# Altium schematic symbol library spacemonochrome-WR_TBL.SchLib: 1696 symbols (part 11 of 28)
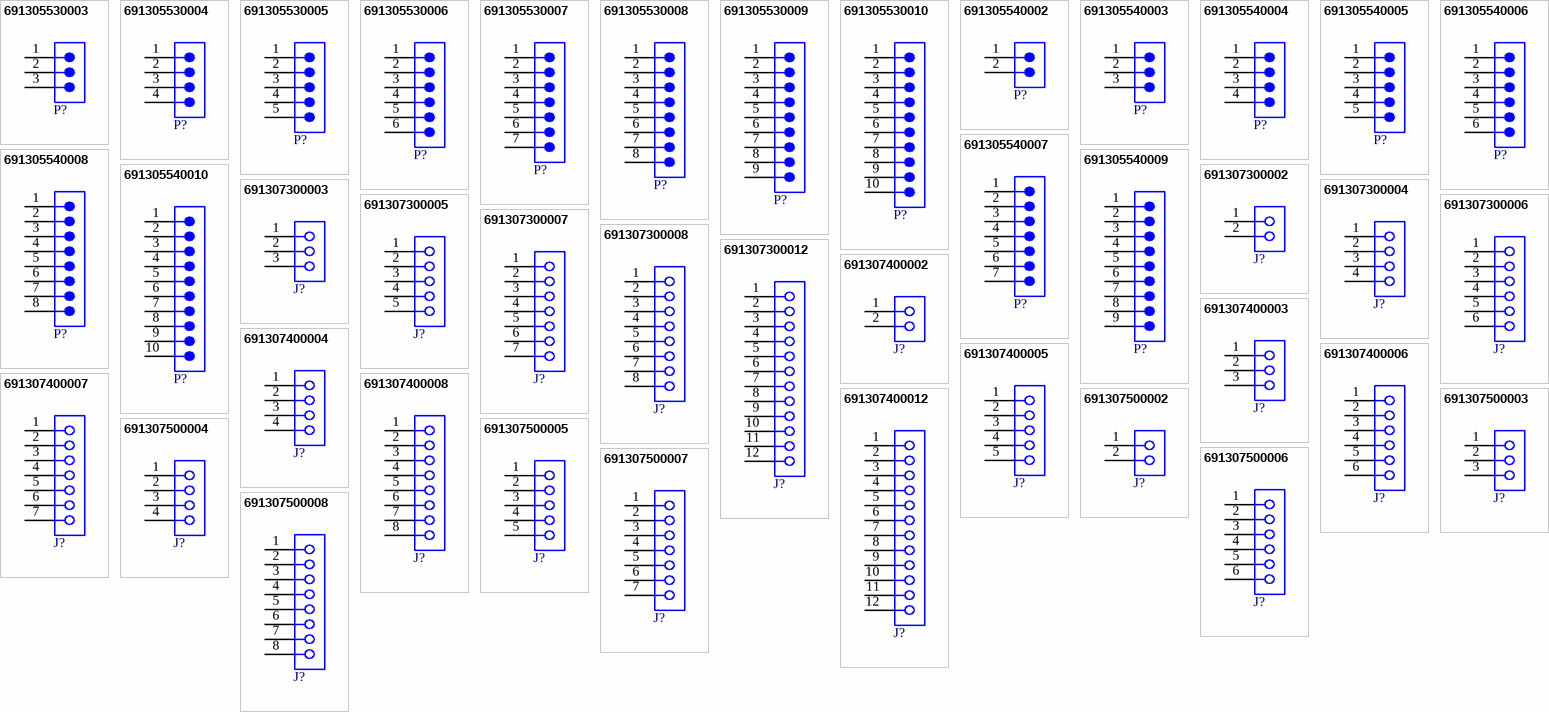
[diagram p52: symbols 691305530003 to 691307500008]

## 691307400004
designator J?  (value not drawn)
WR-TBL Series 3074 Reversed Gender Vertical PCB Header, THT, pitch 7.62mm, 4p; Manufacturer: Wurth Elektronik; Modularity: No; Rated Current: 20A; Working Voltage: 300V; ComponentLink1Description: Website Link; ComponentLink1URL: https://www.we-online.com/redexpert/article/691307400004?ad; ComponentLink2Description: Datasheet Link; ComponentLink2URL: https://www.we-online.com/redexpert/spec/691307400004?ad; Manufacturer Part Number: 691307400004; Category: Terminal Blocks; Match Code: WR-TBL; Mount: Through Hole; Operating Temperature Max: 105°C; Operating Temperature Min: -40°C; Packaging: Box; Application: Pluggable; Number of Pins: 4; Number of Rows: 1; Orientation: Vertical; Pitch: 7.62mm
footprint 691307400004
pins: 1, 2, 3, 4

## 691307400005
designator J?  (value not drawn)
WR-TBL Series 3074 Reversed Gender Vertical PCB Header, THT, pitch 7.62mm, 5p; Manufacturer: Wurth Elektronik; Modularity: No; Rated Current: 20A; Working Voltage: 300V; ComponentLink1Description: Website Link; ComponentLink1URL: https://www.we-online.com/redexpert/article/691307400005?ad; ComponentLink2Description: Datasheet Link; ComponentLink2URL: https://www.we-online.com/redexpert/spec/691307400005?ad; Manufacturer Part Number: 691307400005; Category: Terminal Blocks; Match Code: WR-TBL; Mount: Through Hole; Operating Temperature Max: 105°C; Operating Temperature Min: -40°C; Packaging: Box; Application: Pluggable; Number of Pins: 5; Number of Rows: 1; Orientation: Vertical; Pitch: 7.62mm
footprint 691307400005
pins: 1, 2, 3, 4, 5

## 691307400006
designator J?  (value not drawn)
WR-TBL Series 3074 Reversed Gender Vertical PCB Header, THT, pitch 7.62mm, 6p; Manufacturer: Wurth Elektronik; Modularity: No; Rated Current: 20A; Working Voltage: 300V; ComponentLink1Description: Website Link; ComponentLink1URL: https://www.we-online.com/redexpert/article/691307400006?ad; ComponentLink2Description: Datasheet Link; ComponentLink2URL: https://www.we-online.com/redexpert/spec/691307400006?ad; Manufacturer Part Number: 691307400006; Category: Terminal Blocks; Match Code: WR-TBL; Mount: Through Hole; Operating Temperature Max: 105°C; Operating Temperature Min: -40°C; Packaging: Box; Application: Pluggable; Number of Pins: 6; Number of Rows: 1; Orientation: Vertical; Pitch: 7.62mm
footprint 691307400006
pins: 1, 2, 3, 4, 5, 6

## 691307400007
designator J?  (value not drawn)
WR-TBL Series 3074 Reversed Gender Vertical PCB Header, THT, pitch 7.62mm, 7p; Manufacturer: Wurth Elektronik; Modularity: No; Rated Current: 20A; Working Voltage: 300V; ComponentLink1Description: Website Link; ComponentLink1URL: https://www.we-online.com/redexpert/article/691307400007?ad; ComponentLink2Description: Datasheet Link; ComponentLink2URL: https://www.we-online.com/redexpert/spec/691307400007?ad; Manufacturer Part Number: 691307400007; Category: Terminal Blocks; Match Code: WR-TBL; Mount: Through Hole; Operating Temperature Max: 105°C; Operating Temperature Min: -40°C; Packaging: Box; Application: Pluggable; Number of Pins: 7; Number of Rows: 1; Orientation: Vertical; Pitch: 7.62mm
footprint 691307400007
pins: 1, 2, 3, 4, 5, 6, 7

## 691307400008
designator J?  (value not drawn)
WR-TBL Series 3074 Reversed Gender Vertical PCB Header, THT, pitch 7.62mm, 8p; Manufacturer: Wurth Elektronik; Modularity: No; Rated Current: 20A; Working Voltage: 300V; ComponentLink1Description: Website Link; ComponentLink1URL: https://www.we-online.com/redexpert/article/691307400008?ad; ComponentLink2Description: Datasheet Link; ComponentLink2URL: https://www.we-online.com/redexpert/spec/691307400008?ad; Manufacturer Part Number: 691307400008; Category: Terminal Blocks; Match Code: WR-TBL; Mount: Through Hole; Operating Temperature Max: 105°C; Operating Temperature Min: -40°C; Packaging: Box; Application: Pluggable; Number of Pins: 8; Number of Rows: 1; Orientation: Vertical; Pitch: 7.62mm
footprint 691307400008
pins: 1, 2, 3, 4, 5, 6, 7, 8

## 691307400012
designator J?  (value not drawn)
WR-TBL Series 3074 Reversed Gender Vertical PCB Header, THT, pitch 7.62mm, 12p; Manufacturer: Wurth Elektronik; Modularity: No; Rated Current: 20A; Working Voltage: 300V; ComponentLink1Description: Website Link; ComponentLink1URL: https://www.we-online.com/redexpert/article/691307400012?ad; ComponentLink2Description: Datasheet Link; ComponentLink2URL: https://www.we-online.com/redexpert/spec/691307400012?ad; Manufacturer Part Number: 691307400012; Category: Terminal Blocks; Match Code: WR-TBL; Mount: Through Hole; Operating Temperature Max: 105°C; Operating Temperature Min: -40°C; Packaging: Box; Application: Pluggable; Number of Pins: 12; Number of Rows: 1; Orientation: Vertical; Pitch: 7.62mm
footprint 691307400012
pins: 1, 2, 3, 4, 5, 6, 7, 8, 9, 10, 11, 12

## 691307500002
designator J?  (value not drawn)
WR-TBL Series 3075 Reversed Gender Vertical PCB Header, THT, pitch 5.08mm, 2p; Manufacturer: Wurth Elektronik; Modularity: No; Rated Current: 20A; Working Voltage: 300V; ComponentLink1Description: Website Link; ComponentLink1URL: https://www.we-online.com/redexpert/article/691307500002?ad; ComponentLink2Description: Datasheet Link; ComponentLink2URL: https://www.we-online.com/redexpert/spec/691307500002?ad; Manufacturer Part Number: 691307500002; Category: Terminal Blocks; Match Code: WR-TBL; Mount: Through Hole; Operating Temperature Max: 105°C; Operating Temperature Min: -40°C; Packaging: Box; Application: Pluggable; Number of Pins: 2; Number of Rows: 1; Orientation: Vertical; Pitch: 5.08mm
footprint 691307500002
pins: 1, 2

## 691307500003
designator J?  (value not drawn)
WR-TBL Series 3075 Reversed Gender Vertical PCB Header, THT, pitch 5.08mm, 3p; Manufacturer: Wurth Elektronik; Modularity: No; Rated Current: 20A; Working Voltage: 300V; ComponentLink1Description: Website Link; ComponentLink1URL: https://www.we-online.com/redexpert/article/691307500003?ad; ComponentLink2Description: Datasheet Link; ComponentLink2URL: https://www.we-online.com/redexpert/spec/691307500003?ad; Manufacturer Part Number: 691307500003; Category: Terminal Blocks; Match Code: WR-TBL; Mount: Through Hole; Operating Temperature Max: 105°C; Operating Temperature Min: -40°C; Packaging: Box; Application: Pluggable; Number of Pins: 3; Number of Rows: 1; Orientation: Vertical; Pitch: 5.08mm
footprint 691307500003
pins: 1, 2, 3

## 691307500004
designator J?  (value not drawn)
WR-TBL Series 3075 Reversed Gender Vertical PCB Header, THT, pitch 5.08mm, 4p; Manufacturer: Wurth Elektronik; Modularity: No; Rated Current: 20A; Working Voltage: 300V; ComponentLink1Description: Website Link; ComponentLink1URL: https://www.we-online.com/redexpert/article/691307500004?ad; ComponentLink2Description: Datasheet Link; ComponentLink2URL: https://www.we-online.com/redexpert/spec/691307500004?ad; Manufacturer Part Number: 691307500004; Category: Terminal Blocks; Match Code: WR-TBL; Mount: Through Hole; Operating Temperature Max: 105°C; Operating Temperature Min: -40°C; Packaging: Box; Application: Pluggable; Number of Pins: 4; Number of Rows: 1; Orientation: Vertical; Pitch: 5.08mm
footprint 691307500004
pins: 1, 2, 3, 4

## 691307500005
designator J?  (value not drawn)
WR-TBL Series 3075 Reversed Gender Vertical PCB Header, THT, pitch 5.08mm, 5p; Manufacturer: Wurth Elektronik; Modularity: No; Rated Current: 20A; Working Voltage: 300V; ComponentLink1Description: Website Link; ComponentLink1URL: https://www.we-online.com/redexpert/article/691307500005?ad; ComponentLink2Description: Datasheet Link; ComponentLink2URL: https://www.we-online.com/redexpert/spec/691307500005?ad; Manufacturer Part Number: 691307500005; Category: Terminal Blocks; Match Code: WR-TBL; Mount: Through Hole; Operating Temperature Max: 105°C; Operating Temperature Min: -40°C; Packaging: Box; Application: Pluggable; Number of Pins: 5; Number of Rows: 1; Orientation: Vertical; Pitch: 5.08mm
footprint 691307500005
pins: 1, 2, 3, 4, 5

## 691307500006
designator J?  (value not drawn)
WR-TBL Series 3075 Reversed Gender Vertical PCB Header, THT, pitch 5.08mm, 6p; Manufacturer: Wurth Elektronik; Modularity: No; Rated Current: 20A; Working Voltage: 300V; ComponentLink1Description: Website Link; ComponentLink1URL: https://www.we-online.com/redexpert/article/691307500006?ad; ComponentLink2Description: Datasheet Link; ComponentLink2URL: https://www.we-online.com/redexpert/spec/691307500006?ad; Manufacturer Part Number: 691307500006; Category: Terminal Blocks; Match Code: WR-TBL; Mount: Through Hole; Operating Temperature Max: 105°C; Operating Temperature Min: -40°C; Packaging: Box; Application: Pluggable; Number of Pins: 6; Number of Rows: 1; Orientation: Vertical; Pitch: 5.08mm
footprint 691307500006
pins: 1, 2, 3, 4, 5, 6

## 691307500007
designator J?  (value not drawn)
WR-TBL Series 3075 Reversed Gender Vertical PCB Header, THT, pitch 5.08mm, 7p; Manufacturer: Wurth Elektronik; Modularity: No; Rated Current: 20A; Working Voltage: 300V; ComponentLink1Description: Website Link; ComponentLink1URL: https://www.we-online.com/redexpert/article/691307500007?ad; ComponentLink2Description: Datasheet Link; ComponentLink2URL: https://www.we-online.com/redexpert/spec/691307500007?ad; Manufacturer Part Number: 691307500007; Category: Terminal Blocks; Match Code: WR-TBL; Mount: Through Hole; Operating Temperature Max: 105°C; Operating Temperature Min: -40°C; Packaging: Box; Application: Pluggable; Number of Pins: 7; Number of Rows: 1; Orientation: Vertical; Pitch: 5.08mm
footprint 691307500007
pins: 1, 2, 3, 4, 5, 6, 7

## 691307500008
designator J?  (value not drawn)
WR-TBL Series 3075 Reversed Gender Vertical PCB Header, THT, pitch 5.08mm, 8p; Manufacturer: Wurth Elektronik; Modularity: No; Rated Current: 20A; Working Voltage: 300V; ComponentLink1Description: Website Link; ComponentLink1URL: https://www.we-online.com/redexpert/article/691307500008?ad; ComponentLink2Description: Datasheet Link; ComponentLink2URL: https://www.we-online.com/redexpert/spec/691307500008?ad; Manufacturer Part Number: 691307500008; Category: Terminal Blocks; Match Code: WR-TBL; Mount: Through Hole; Operating Temperature Max: 105°C; Operating Temperature Min: -40°C; Packaging: Box; Application: Pluggable; Number of Pins: 8; Number of Rows: 1; Orientation: Vertical; Pitch: 5.08mm
footprint 691307500008
pins: 1, 2, 3, 4, 5, 6, 7, 8

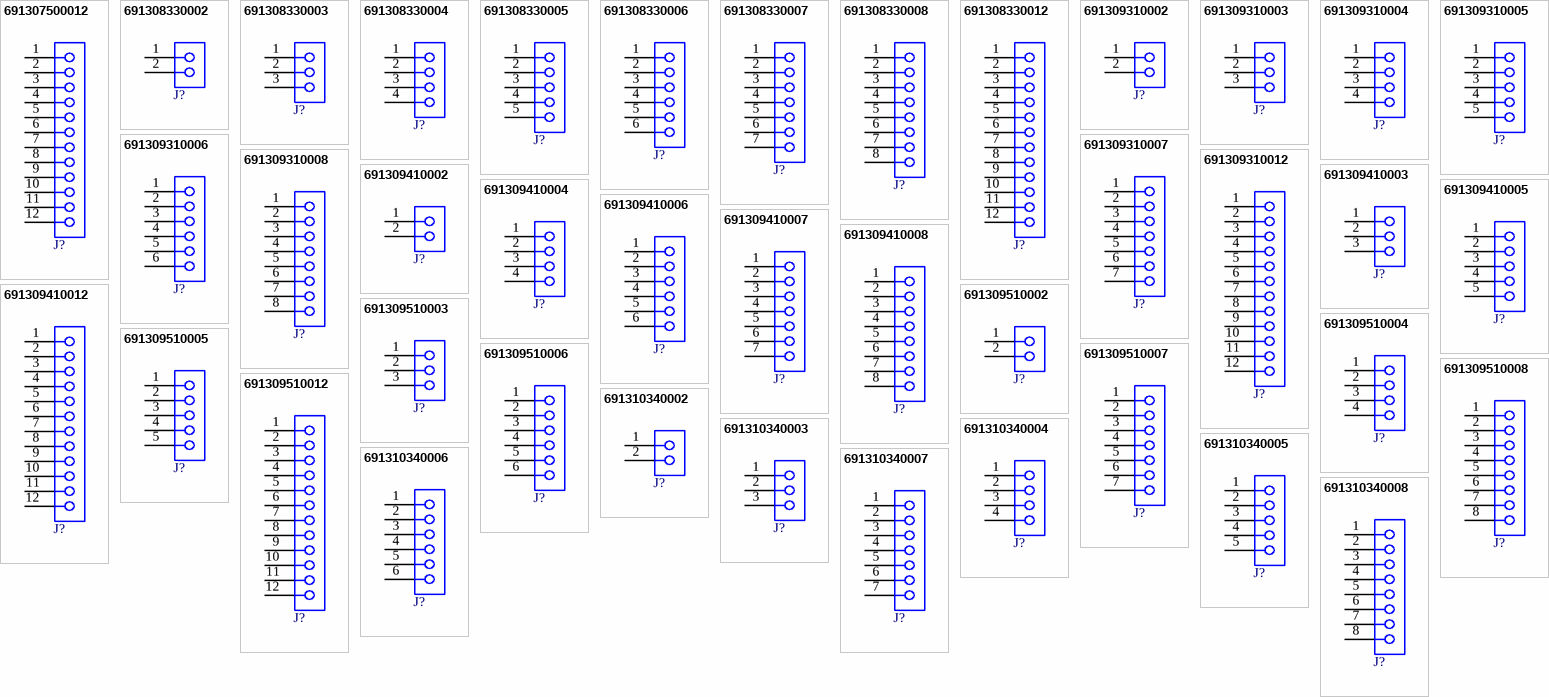
[diagram p16: symbols 691307500012 to 691310340008]

## 691307500012
designator J?  (value not drawn)
WR-TBL Series 3075 Reversed Gender Vertical PCB Header, THT, pitch 5.08mm, 12p; Manufacturer: Wurth Elektronik; Modularity: No; Rated Current: 20A; Working Voltage: 300V; ComponentLink1Description: Website Link; ComponentLink1URL: https://www.we-online.com/redexpert/article/691307500012?ad; ComponentLink2Description: Datasheet Link; ComponentLink2URL: https://www.we-online.com/redexpert/spec/691307500012?ad; Manufacturer Part Number: 691307500012; Category: Terminal Blocks; Match Code: WR-TBL; Mount: Through Hole; Operating Temperature Max: 105°C; Operating Temperature Min: -40°C; Packaging: Box; Application: Pluggable; Number of Pins: 12; Number of Rows: 1; Orientation: Vertical; Pitch: 5.08mm
footprint 691307500012
pins: 1, 2, 3, 4, 5, 6, 7, 8, 9, 10, 11, 12

## 691308330002
designator J?  (value not drawn)
WR-TBL Series 3083 Vertical Reserved PCB Header with Flanges, THT, pitch 3.81mm, 2p; Manufacturer: Wurth Elektronik; Modularity: No; Rated Current: 8A; Working Voltage: 300V; ComponentLink1Description: Website Link; ComponentLink1URL: https://www.we-online.com/redexpert/article/691308330002?ad; ComponentLink2Description: Datasheet Link; ComponentLink2URL: https://www.we-online.com/redexpert/spec/691308330002?ad; Manufacturer Part Number: 691308330002; Category: Terminal Blocks; Match Code: WR-TBL; Mount: Through Hole; Operating Temperature Max: 115°C; Operating Temperature Min: -40°C; Packaging: Box; Application: Pluggable; Number of Pins: 2; Number of Rows: 1; Orientation: Vertical; Pitch: 3.81mm
footprint 691308330002
pins: 1, 2

## 691308330003
designator J?  (value not drawn)
WR-TBL Series 3083 Vertical Reserved PCB Header with Flanges, THT, pitch 3.81mm, 3p; Manufacturer: Wurth Elektronik; Modularity: No; Rated Current: 8A; Working Voltage: 300V; ComponentLink1Description: Website Link; ComponentLink1URL: https://www.we-online.com/redexpert/article/691308330003?ad; ComponentLink2Description: Datasheet Link; ComponentLink2URL: https://www.we-online.com/redexpert/spec/691308330003?ad; Manufacturer Part Number: 691308330003; Category: Terminal Blocks; Match Code: WR-TBL; Mount: Through Hole; Operating Temperature Max: 115°C; Operating Temperature Min: -40°C; Packaging: Box; Application: Pluggable; Number of Pins: 3; Number of Rows: 1; Orientation: Vertical; Pitch: 3.81mm
footprint 691308330003
pins: 1, 2, 3

## 691308330004
designator J?  (value not drawn)
WR-TBL Series 3083 Vertical Reserved PCB Header with Flanges, THT, pitch 3.81mm, 4p; Manufacturer: Wurth Elektronik; Modularity: No; Rated Current: 8A; Working Voltage: 300V; ComponentLink1Description: Website Link; ComponentLink1URL: https://www.we-online.com/redexpert/article/691308330004?ad; ComponentLink2Description: Datasheet Link; ComponentLink2URL: https://www.we-online.com/redexpert/spec/691308330004?ad; Manufacturer Part Number: 691308330004; Category: Terminal Blocks; Match Code: WR-TBL; Mount: Through Hole; Operating Temperature Max: 115°C; Operating Temperature Min: -40°C; Packaging: Box; Application: Pluggable; Number of Pins: 4; Number of Rows: 1; Orientation: Vertical; Pitch: 3.81mm
footprint 691308330004
pins: 1, 2, 3, 4

## 691308330005
designator J?  (value not drawn)
WR-TBL Series 3083 Vertical Reserved PCB Header with Flanges, THT, pitch 3.81mm, 5p; Manufacturer: Wurth Elektronik; Modularity: No; Rated Current: 8A; Working Voltage: 300V; ComponentLink1Description: Website Link; ComponentLink1URL: https://www.we-online.com/redexpert/article/691308330005?ad; ComponentLink2Description: Datasheet Link; ComponentLink2URL: https://www.we-online.com/redexpert/spec/691308330005?ad; Manufacturer Part Number: 691308330005; Category: Terminal Blocks; Match Code: WR-TBL; Mount: Through Hole; Operating Temperature Max: 115°C; Operating Temperature Min: -40°C; Packaging: Box; Application: Pluggable; Number of Pins: 5; Number of Rows: 1; Orientation: Vertical; Pitch: 3.81mm
footprint 691308330005
pins: 1, 2, 3, 4, 5

## 691308330006
designator J?  (value not drawn)
WR-TBL Series 3083 Vertical Reserved PCB Header with Flanges, THT, pitch 3.81mm, 6p; Manufacturer: Wurth Elektronik; Modularity: No; Rated Current: 8A; Working Voltage: 300V; ComponentLink1Description: Website Link; ComponentLink1URL: https://www.we-online.com/redexpert/article/691308330006?ad; ComponentLink2Description: Datasheet Link; ComponentLink2URL: https://www.we-online.com/redexpert/spec/691308330006?ad; Manufacturer Part Number: 691308330006; Category: Terminal Blocks; Match Code: WR-TBL; Mount: Through Hole; Operating Temperature Max: 115°C; Operating Temperature Min: -40°C; Packaging: Box; Application: Pluggable; Number of Pins: 6; Number of Rows: 1; Orientation: Vertical; Pitch: 3.81mm
footprint 691308330006
pins: 1, 2, 3, 4, 5, 6

## 691308330007
designator J?  (value not drawn)
WR-TBL Series 3083 Vertical Reserved PCB Header with Flanges, THT, pitch 3.81mm, 7p; Manufacturer: Wurth Elektronik; Modularity: No; Rated Current: 8A; Working Voltage: 300V; ComponentLink1Description: Website Link; ComponentLink1URL: https://www.we-online.com/redexpert/article/691308330007?ad; ComponentLink2Description: Datasheet Link; ComponentLink2URL: https://www.we-online.com/redexpert/spec/691308330007?ad; Manufacturer Part Number: 691308330007; Category: Terminal Blocks; Match Code: WR-TBL; Mount: Through Hole; Operating Temperature Max: 115°C; Operating Temperature Min: -40°C; Packaging: Box; Application: Pluggable; Number of Pins: 7; Number of Rows: 1; Orientation: Vertical; Pitch: 3.81mm
footprint 691308330007
pins: 1, 2, 3, 4, 5, 6, 7

## 691308330008
designator J?  (value not drawn)
WR-TBL Series 3083 Vertical Reserved PCB Header with Flanges, THT, pitch 3.81mm, 8p; Manufacturer: Wurth Elektronik; Modularity: No; Rated Current: 8A; Working Voltage: 300V; ComponentLink1Description: Website Link; ComponentLink1URL: https://www.we-online.com/redexpert/article/691308330008?ad; ComponentLink2Description: Datasheet Link; ComponentLink2URL: https://www.we-online.com/redexpert/spec/691308330008?ad; Manufacturer Part Number: 691308330008; Category: Terminal Blocks; Match Code: WR-TBL; Mount: Through Hole; Operating Temperature Max: 115°C; Operating Temperature Min: -40°C; Packaging: Box; Application: Pluggable; Number of Pins: 8; Number of Rows: 1; Orientation: Vertical; Pitch: 3.81mm
footprint 691308330008
pins: 1, 2, 3, 4, 5, 6, 7, 8

## 691308330012
designator J?  (value not drawn)
WR-TBL Series 3083 Vertical Reserved PCB Header with Flanges, THT, pitch 3.81mm, 12p; Manufacturer: Wurth Elektronik; Modularity: No; Rated Current: 8A; Working Voltage: 300V; ComponentLink1Description: Website Link; ComponentLink1URL: https://www.we-online.com/redexpert/article/691308330012?ad; ComponentLink2Description: Datasheet Link; ComponentLink2URL: https://www.we-online.com/redexpert/spec/691308330012?ad; Manufacturer Part Number: 691308330012; Category: Terminal Blocks; Match Code: WR-TBL; Mount: Through Hole; Operating Temperature Max: 115°C; Operating Temperature Min: -40°C; Packaging: Box; Application: Pluggable; Number of Pins: 12; Number of Rows: 1; Orientation: Vertical; Pitch: 3.81mm
footprint 691308330012
pins: 1, 2, 3, 4, 5, 6, 7, 8, 9, 10, 11, 12

## 691309310002
designator J?  (value not drawn)
WR-TBL Series 3093 Horizontal Reserved PCB Header with Flanges, THT, pitch 3.81mm, 2p; Manufacturer: Wurth Elektronik; Modularity: No; Rated Current: 8A; Working Voltage: 300V; ComponentLink1Description: Website Link; ComponentLink1URL: https://www.we-online.com/redexpert/article/691309310002?ad; ComponentLink2Description: Datasheet Link; ComponentLink2URL: https://www.we-online.com/redexpert/spec/691309310002?ad; Manufacturer Part Number: 691309310002; Category: Terminal Blocks; Match Code: WR-TBL; Mount: Through Hole; Operating Temperature Max: 115°C; Operating Temperature Min: -40°C; Packaging: Box; Application: Pluggable; Number of Pins: 2; Number of Rows: 1; Orientation: Horizontal; Pitch: 3.81mm
footprint 691309310002
pins: 1, 2

## 691309310003
designator J?  (value not drawn)
WR-TBL Series 3093 Horizontal Reserved PCB Header with Flanges, THT, pitch 3.81mm, 3p; Manufacturer: Wurth Elektronik; Modularity: No; Rated Current: 8A; Working Voltage: 300V; ComponentLink1Description: Website Link; ComponentLink1URL: https://www.we-online.com/redexpert/article/691309310003?ad; ComponentLink2Description: Datasheet Link; ComponentLink2URL: https://www.we-online.com/redexpert/spec/691309310003?ad; Manufacturer Part Number: 691309310003; Category: Terminal Blocks; Match Code: WR-TBL; Mount: Through Hole; Operating Temperature Max: 115°C; Operating Temperature Min: -40°C; Packaging: Box; Application: Pluggable; Number of Pins: 3; Number of Rows: 1; Orientation: Horizontal; Pitch: 3.81mm
footprint 691309310003
pins: 1, 2, 3

## 691309310004
designator J?  (value not drawn)
WR-TBL Series 3093 Horizontal Reserved PCB Header with Flanges, THT, pitch 3.81mm, 4p; Manufacturer: Wurth Elektronik; Modularity: No; Rated Current: 8A; Working Voltage: 300V; ComponentLink1Description: Website Link; ComponentLink1URL: https://www.we-online.com/redexpert/article/691309310004?ad; ComponentLink2Description: Datasheet Link; ComponentLink2URL: https://www.we-online.com/redexpert/spec/691309310004?ad; Manufacturer Part Number: 691309310004; Category: Terminal Blocks; Match Code: WR-TBL; Mount: Through Hole; Operating Temperature Max: 115°C; Operating Temperature Min: -40°C; Packaging: Box; Application: Pluggable; Number of Pins: 4; Number of Rows: 1; Orientation: Horizontal; Pitch: 3.81mm
footprint 691309310004
pins: 1, 2, 3, 4

## 691309310005
designator J?  (value not drawn)
WR-TBL Series 3093 Horizontal Reserved PCB Header with Flanges, THT, pitch 3.81mm, 5p; Manufacturer: Wurth Elektronik; Modularity: No; Rated Current: 8A; Working Voltage: 300V; ComponentLink1Description: Website Link; ComponentLink1URL: https://www.we-online.com/redexpert/article/691309310005?ad; ComponentLink2Description: Datasheet Link; ComponentLink2URL: https://www.we-online.com/redexpert/spec/691309310005?ad; Manufacturer Part Number: 691309310005; Category: Terminal Blocks; Match Code: WR-TBL; Mount: Through Hole; Operating Temperature Max: 115°C; Operating Temperature Min: -40°C; Packaging: Box; Application: Pluggable; Number of Pins: 5; Number of Rows: 1; Orientation: Horizontal; Pitch: 3.81mm
footprint 691309310005
pins: 1, 2, 3, 4, 5

## 691309310006
designator J?  (value not drawn)
WR-TBL Series 3093 Horizontal Reserved PCB Header with Flanges, THT, pitch 3.81mm, 6p; Manufacturer: Wurth Elektronik; Modularity: No; Rated Current: 8A; Working Voltage: 300V; ComponentLink1Description: Website Link; ComponentLink1URL: https://www.we-online.com/redexpert/article/691309310006?ad; ComponentLink2Description: Datasheet Link; ComponentLink2URL: https://www.we-online.com/redexpert/spec/691309310006?ad; Manufacturer Part Number: 691309310006; Category: Terminal Blocks; Match Code: WR-TBL; Mount: Through Hole; Operating Temperature Max: 115°C; Operating Temperature Min: -40°C; Packaging: Box; Application: Pluggable; Number of Pins: 6; Number of Rows: 1; Orientation: Horizontal; Pitch: 3.81mm
footprint 691309310006
pins: 1, 2, 3, 4, 5, 6

## 691309310007
designator J?  (value not drawn)
WR-TBL Series 3093 Horizontal Reserved PCB Header with Flanges, THT, pitch 3.81mm, 7p; Manufacturer: Wurth Elektronik; Modularity: No; Rated Current: 8A; Working Voltage: 300V; ComponentLink1Description: Website Link; ComponentLink1URL: https://www.we-online.com/redexpert/article/691309310007?ad; ComponentLink2Description: Datasheet Link; ComponentLink2URL: https://www.we-online.com/redexpert/spec/691309310007?ad; Manufacturer Part Number: 691309310007; Category: Terminal Blocks; Match Code: WR-TBL; Mount: Through Hole; Operating Temperature Max: 115°C; Operating Temperature Min: -40°C; Packaging: Box; Application: Pluggable; Number of Pins: 7; Number of Rows: 1; Orientation: Horizontal; Pitch: 3.81mm
footprint 691309310007
pins: 1, 2, 3, 4, 5, 6, 7

## 691309310008
designator J?  (value not drawn)
WR-TBL Series 3093 Horizontal Reserved PCB Header with Flanges, THT, pitch 3.81mm, 8p; Manufacturer: Wurth Elektronik; Modularity: No; Rated Current: 8A; Working Voltage: 300V; ComponentLink1Description: Website Link; ComponentLink1URL: https://www.we-online.com/redexpert/article/691309310008?ad; ComponentLink2Description: Datasheet Link; ComponentLink2URL: https://www.we-online.com/redexpert/spec/691309310008?ad; Manufacturer Part Number: 691309310008; Category: Terminal Blocks; Match Code: WR-TBL; Mount: Through Hole; Operating Temperature Max: 115°C; Operating Temperature Min: -40°C; Packaging: Box; Application: Pluggable; Number of Pins: 8; Number of Rows: 1; Orientation: Horizontal; Pitch: 3.81mm
footprint 691309310008
pins: 1, 2, 3, 4, 5, 6, 7, 8

## 691309310012
designator J?  (value not drawn)
WR-TBL Series 3093 Horizontal Reserved PCB Header with Flanges, THT, pitch 3.81mm, 12p; Manufacturer: Wurth Elektronik; Modularity: No; Rated Current: 8A; Working Voltage: 300V; ComponentLink1Description: Website Link; ComponentLink1URL: https://www.we-online.com/redexpert/article/691309310012?ad; ComponentLink2Description: Datasheet Link; ComponentLink2URL: https://www.we-online.com/redexpert/spec/691309310012?ad; Manufacturer Part Number: 691309310012; Category: Terminal Blocks; Match Code: WR-TBL; Mount: Through Hole; Operating Temperature Max: 115°C; Operating Temperature Min: -40°C; Packaging: Box; Application: Pluggable; Number of Pins: 12; Number of Rows: 1; Orientation: Horizontal; Pitch: 3.81mm
footprint 691309310012
pins: 1, 2, 3, 4, 5, 6, 7, 8, 9, 10, 11, 12

## 691309410002
designator J?  (value not drawn)
WR-TBL Series 3094 Reversed Gender Horizontal PCB Header, THT, pitch 7.62mm, 2p; Manufacturer: Wurth Elektronik; Modularity: No; Rated Current: 20A; Working Voltage: 300V; ComponentLink1Description: Website Link; ComponentLink1URL: https://www.we-online.com/redexpert/article/691309410002?ad; ComponentLink2Description: Datasheet Link; ComponentLink2URL: https://www.we-online.com/redexpert/spec/691309410002?ad; Manufacturer Part Number: 691309410002; Category: Terminal Blocks; Match Code: WR-TBL; Mount: Through Hole; Operating Temperature Max: 105°C; Operating Temperature Min: -40°C; Packaging: Box; Application: Pluggable; Number of Pins: 2; Number of Rows: 1; Orientation: Horizontal; Pitch: 7.62mm
footprint 691309410002
pins: 1, 2

## 691309410003
designator J?  (value not drawn)
WR-TBL Series 3094 Reversed Gender Horizontal PCB Header, THT, pitch 7.62mm, 3p; Manufacturer: Wurth Elektronik; Modularity: No; Rated Current: 20A; Working Voltage: 300V; ComponentLink1Description: Website Link; ComponentLink1URL: https://www.we-online.com/redexpert/article/691309410003?ad; ComponentLink2Description: Datasheet Link; ComponentLink2URL: https://www.we-online.com/redexpert/spec/691309410003?ad; Manufacturer Part Number: 691309410003; Category: Terminal Blocks; Match Code: WR-TBL; Mount: Through Hole; Operating Temperature Max: 105°C; Operating Temperature Min: -40°C; Packaging: Box; Application: Pluggable; Number of Pins: 3; Number of Rows: 1; Orientation: Horizontal; Pitch: 7.62mm
footprint 691309410003
pins: 1, 2, 3

## 691309410004
designator J?  (value not drawn)
WR-TBL Series 3094 Reversed Gender Horizontal PCB Header, THT, pitch 7.62mm, 4p; Manufacturer: Wurth Elektronik; Modularity: No; Rated Current: 20A; Working Voltage: 300V; ComponentLink1Description: Website Link; ComponentLink1URL: https://www.we-online.com/redexpert/article/691309410004?ad; ComponentLink2Description: Datasheet Link; ComponentLink2URL: https://www.we-online.com/redexpert/spec/691309410004?ad; Manufacturer Part Number: 691309410004; Category: Terminal Blocks; Match Code: WR-TBL; Mount: Through Hole; Operating Temperature Max: 105°C; Operating Temperature Min: -40°C; Packaging: Box; Application: Pluggable; Number of Pins: 4; Number of Rows: 1; Orientation: Horizontal; Pitch: 7.62mm
footprint 691309410004
pins: 1, 2, 3, 4

## 691309410005
designator J?  (value not drawn)
WR-TBL Series 3094 Reversed Gender Horizontal PCB Header, THT, pitch 7.62mm, 5p; Manufacturer: Wurth Elektronik; Modularity: No; Rated Current: 20A; Working Voltage: 300V; ComponentLink1Description: Website Link; ComponentLink1URL: https://www.we-online.com/redexpert/article/691309410005?ad; ComponentLink2Description: Datasheet Link; ComponentLink2URL: https://www.we-online.com/redexpert/spec/691309410005?ad; Manufacturer Part Number: 691309410005; Category: Terminal Blocks; Match Code: WR-TBL; Mount: Through Hole; Operating Temperature Max: 105°C; Operating Temperature Min: -40°C; Packaging: Box; Application: Pluggable; Number of Pins: 5; Number of Rows: 1; Orientation: Horizontal; Pitch: 7.62mm
footprint 691309410005
pins: 1, 2, 3, 4, 5

## 691309410006
designator J?  (value not drawn)
WR-TBL Series 3094 Reversed Gender Horizontal PCB Header, THT, pitch 7.62mm, 6p; Manufacturer: Wurth Elektronik; Modularity: No; Rated Current: 20A; Working Voltage: 300V; ComponentLink1Description: Website Link; ComponentLink1URL: https://www.we-online.com/redexpert/article/691309410006?ad; ComponentLink2Description: Datasheet Link; ComponentLink2URL: https://www.we-online.com/redexpert/spec/691309410006?ad; Manufacturer Part Number: 691309410006; Category: Terminal Blocks; Match Code: WR-TBL; Mount: Through Hole; Operating Temperature Max: 105°C; Operating Temperature Min: -40°C; Packaging: Box; Application: Pluggable; Number of Pins: 6; Number of Rows: 1; Orientation: Horizontal; Pitch: 7.62mm
footprint 691309410006
pins: 1, 2, 3, 4, 5, 6

## 691309410007
designator J?  (value not drawn)
WR-TBL Series 3094 Reversed Gender Horizontal PCB Header, THT, pitch 7.62mm, 7p; Manufacturer: Wurth Elektronik; Modularity: No; Rated Current: 20A; Working Voltage: 300V; ComponentLink1Description: Website Link; ComponentLink1URL: https://www.we-online.com/redexpert/article/691309410007?ad; ComponentLink2Description: Datasheet Link; ComponentLink2URL: https://www.we-online.com/redexpert/spec/691309410007?ad; Manufacturer Part Number: 691309410007; Category: Terminal Blocks; Match Code: WR-TBL; Mount: Through Hole; Operating Temperature Max: 105°C; Operating Temperature Min: -40°C; Packaging: Box; Application: Pluggable; Number of Pins: 7; Number of Rows: 1; Orientation: Horizontal; Pitch: 7.62mm
footprint 691309410007
pins: 1, 2, 3, 4, 5, 6, 7

## 691309410008
designator J?  (value not drawn)
WR-TBL Series 3094 Reversed Gender Horizontal PCB Header, THT, pitch 7.62mm, 8p; Manufacturer: Wurth Elektronik; Modularity: No; Rated Current: 20A; Working Voltage: 300V; ComponentLink1Description: Website Link; ComponentLink1URL: https://www.we-online.com/redexpert/article/691309410008?ad; ComponentLink2Description: Datasheet Link; ComponentLink2URL: https://www.we-online.com/redexpert/spec/691309410008?ad; Manufacturer Part Number: 691309410008; Category: Terminal Blocks; Match Code: WR-TBL; Mount: Through Hole; Operating Temperature Max: 105°C; Operating Temperature Min: -40°C; Packaging: Box; Application: Pluggable; Number of Pins: 8; Number of Rows: 1; Orientation: Horizontal; Pitch: 7.62mm
footprint 691309410008
pins: 1, 2, 3, 4, 5, 6, 7, 8

## 691309410012
designator J?  (value not drawn)
WR-TBL Series 3094 Reversed Gender Horizontal PCB Header, THT, pitch 7.62mm, 12p; Manufacturer: Wurth Elektronik; Modularity: No; Rated Current: 20A; Working Voltage: 300V; ComponentLink1Description: Website Link; ComponentLink1URL: https://www.we-online.com/redexpert/article/691309410012?ad; ComponentLink2Description: Datasheet Link; ComponentLink2URL: https://www.we-online.com/redexpert/spec/691309410012?ad; Manufacturer Part Number: 691309410012; Category: Terminal Blocks; Match Code: WR-TBL; Mount: Through Hole; Operating Temperature Max: 105°C; Operating Temperature Min: -40°C; Packaging: Box; Application: Pluggable; Number of Pins: 12; Number of Rows: 1; Orientation: Horizontal; Pitch: 7.62mm
footprint 691309410012
pins: 1, 2, 3, 4, 5, 6, 7, 8, 9, 10, 11, 12

## 691309510002
designator J?  (value not drawn)
WR-TBL Series 3095 Reversed Gender Horizontal PCB Header, THT, pitch 5.08mm, 2p; Manufacturer: Wurth Elektronik; Modularity: No; Rated Current: 20A; Working Voltage: 300V; ComponentLink1Description: Website Link; ComponentLink1URL: https://www.we-online.com/redexpert/article/691309510002?ad; ComponentLink2Description: Datasheet Link; ComponentLink2URL: https://www.we-online.com/redexpert/spec/691309510002?ad; Manufacturer Part Number: 691309510002; Category: Terminal Blocks; Match Code: WR-TBL; Mount: Through Hole; Operating Temperature Max: 105°C; Operating Temperature Min: -40°C; Packaging: Box; Application: Pluggable; Number of Pins: 2; Number of Rows: 1; Orientation: Horizontal; Pitch: 5.08mm
footprint 691309510002
pins: 1, 2

## 691309510003
designator J?  (value not drawn)
WR-TBL Series 3095 Reversed Gender Horizontal PCB Header, THT, pitch 5.08mm, 3p; Manufacturer: Wurth Elektronik; Modularity: No; Rated Current: 20A; Working Voltage: 300V; ComponentLink1Description: Website Link; ComponentLink1URL: https://www.we-online.com/redexpert/article/691309510003?ad; ComponentLink2Description: Datasheet Link; ComponentLink2URL: https://www.we-online.com/redexpert/spec/691309510003?ad; Manufacturer Part Number: 691309510003; Category: Terminal Blocks; Match Code: WR-TBL; Mount: Through Hole; Operating Temperature Max: 105°C; Operating Temperature Min: -40°C; Packaging: Box; Application: Pluggable; Number of Pins: 3; Number of Rows: 1; Orientation: Horizontal; Pitch: 5.08mm
footprint 691309510003
pins: 1, 2, 3

## 691309510004
designator J?  (value not drawn)
WR-TBL Series 3095 Reversed Gender Horizontal PCB Header, THT, pitch 5.08mm, 4p; Manufacturer: Wurth Elektronik; Modularity: No; Rated Current: 20A; Working Voltage: 300V; ComponentLink1Description: Website Link; ComponentLink1URL: https://www.we-online.com/redexpert/article/691309510004?ad; ComponentLink2Description: Datasheet Link; ComponentLink2URL: https://www.we-online.com/redexpert/spec/691309510004?ad; Manufacturer Part Number: 691309510004; Category: Terminal Blocks; Match Code: WR-TBL; Mount: Through Hole; Operating Temperature Max: 105°C; Operating Temperature Min: -40°C; Packaging: Box; Application: Pluggable; Number of Pins: 4; Number of Rows: 1; Orientation: Horizontal; Pitch: 5.08mm
footprint 691309510004
pins: 1, 2, 3, 4

## 691309510005
designator J?  (value not drawn)
WR-TBL Series 3095 Reversed Gender Horizontal PCB Header, THT, pitch 5.08mm, 5p; Manufacturer: Wurth Elektronik; Modularity: No; Rated Current: 20A; Working Voltage: 300V; ComponentLink1Description: Website Link; ComponentLink1URL: https://www.we-online.com/redexpert/article/691309510005?ad; ComponentLink2Description: Datasheet Link; ComponentLink2URL: https://www.we-online.com/redexpert/spec/691309510005?ad; Manufacturer Part Number: 691309510005; Category: Terminal Blocks; Match Code: WR-TBL; Mount: Through Hole; Operating Temperature Max: 105°C; Operating Temperature Min: -40°C; Packaging: Box; Application: Pluggable; Number of Pins: 5; Number of Rows: 1; Orientation: Horizontal; Pitch: 5.08mm
footprint 691309510005
pins: 1, 2, 3, 4, 5

## 691309510006
designator J?  (value not drawn)
WR-TBL Series 3095 Reversed Gender Horizontal PCB Header, THT, pitch 5.08mm, 6p; Manufacturer: Wurth Elektronik; Modularity: No; Rated Current: 20A; Working Voltage: 300V; ComponentLink1Description: Website Link; ComponentLink1URL: https://www.we-online.com/redexpert/article/691309510006?ad; ComponentLink2Description: Datasheet Link; ComponentLink2URL: https://www.we-online.com/redexpert/spec/691309510006?ad; Manufacturer Part Number: 691309510006; Category: Terminal Blocks; Match Code: WR-TBL; Mount: Through Hole; Operating Temperature Max: 105°C; Operating Temperature Min: -40°C; Packaging: Box; Application: Pluggable; Number of Pins: 6; Number of Rows: 1; Orientation: Horizontal; Pitch: 5.08mm
footprint 691309510006
pins: 1, 2, 3, 4, 5, 6

## 691309510007
designator J?  (value not drawn)
WR-TBL Series 3095 Reversed Gender Horizontal PCB Header, THT, pitch 5.08mm, 7p; Manufacturer: Wurth Elektronik; Modularity: No; Rated Current: 20A; Working Voltage: 300V; ComponentLink1Description: Website Link; ComponentLink1URL: https://www.we-online.com/redexpert/article/691309510007?ad; ComponentLink2Description: Datasheet Link; ComponentLink2URL: https://www.we-online.com/redexpert/spec/691309510007?ad; Manufacturer Part Number: 691309510007; Category: Terminal Blocks; Match Code: WR-TBL; Mount: Through Hole; Operating Temperature Max: 105°C; Operating Temperature Min: -40°C; Packaging: Box; Application: Pluggable; Number of Pins: 7; Number of Rows: 1; Orientation: Horizontal; Pitch: 5.08mm
footprint 691309510007
pins: 1, 2, 3, 4, 5, 6, 7

## 691309510008
designator J?  (value not drawn)
WR-TBL Series 3095 Reversed Gender Horizontal PCB Header, THT, pitch 5.08mm, 8p; Manufacturer: Wurth Elektronik; Modularity: No; Rated Current: 20A; Working Voltage: 300V; ComponentLink1Description: Website Link; ComponentLink1URL: https://www.we-online.com/redexpert/article/691309510008?ad; ComponentLink2Description: Datasheet Link; ComponentLink2URL: https://www.we-online.com/redexpert/spec/691309510008?ad; Manufacturer Part Number: 691309510008; Category: Terminal Blocks; Match Code: WR-TBL; Mount: Through Hole; Operating Temperature Max: 105°C; Operating Temperature Min: -40°C; Packaging: Box; Application: Pluggable; Number of Pins: 8; Number of Rows: 1; Orientation: Horizontal; Pitch: 5.08mm
footprint 691309510008
pins: 1, 2, 3, 4, 5, 6, 7, 8

## 691309510012
designator J?  (value not drawn)
WR-TBL Series 3095 Reversed Gender Horizontal PCB Header, THT, pitch 5.08mm, 12p; Manufacturer: Wurth Elektronik; Modularity: No; Rated Current: 20A; Working Voltage: 300V; ComponentLink1Description: Website Link; ComponentLink1URL: https://www.we-online.com/redexpert/article/691309510012?ad; ComponentLink2Description: Datasheet Link; ComponentLink2URL: https://www.we-online.com/redexpert/spec/691309510012?ad; Manufacturer Part Number: 691309510012; Category: Terminal Blocks; Match Code: WR-TBL; Mount: Through Hole; Operating Temperature Max: 105°C; Operating Temperature Min: -40°C; Packaging: Box; Application: Pluggable; Number of Pins: 12; Number of Rows: 1; Orientation: Horizontal; Pitch: 5.08mm
footprint 691309510012
pins: 1, 2, 3, 4, 5, 6, 7, 8, 9, 10, 11, 12

## 691310340002
designator J?  (value not drawn)
WR-TBL Series 3103 Horizontal PCB Header with Flanges, THT, pitch 3.81mm, 2p; Manufacturer: Wurth Elektronik; Modularity: No; Rated Current: 8A; Working Voltage: 300V; ComponentLink1Description: Website Link; ComponentLink1URL: https://www.we-online.com/redexpert/article/691310340002?ad; ComponentLink2Description: Datasheet Link; ComponentLink2URL: https://www.we-online.com/redexpert/spec/691310340002?ad; Manufacturer Part Number: 691310340002; Category: Terminal Blocks; Match Code: WR-TBL; Mount: Through Hole; Operating Temperature Max: 115°C; Operating Temperature Min: -40°C; Packaging: Box; Application: Pluggable; Number of Pins: 2; Number of Rows: 1; Orientation: Horizontal; Pitch: 3.81mm
footprint 691310340002
pins: 1, 2

## 691310340003
designator J?  (value not drawn)
WR-TBL Series 3103 Horizontal PCB Header with Flanges, THT, pitch 3.81mm, 3p; Manufacturer: Wurth Elektronik; Modularity: No; Rated Current: 8A; Working Voltage: 300V; ComponentLink1Description: Website Link; ComponentLink1URL: https://www.we-online.com/redexpert/article/691310340003?ad; ComponentLink2Description: Datasheet Link; ComponentLink2URL: https://www.we-online.com/redexpert/spec/691310340003?ad; Manufacturer Part Number: 691310340003; Category: Terminal Blocks; Match Code: WR-TBL; Mount: Through Hole; Operating Temperature Max: 115°C; Operating Temperature Min: -40°C; Packaging: Box; Application: Pluggable; Number of Pins: 3; Number of Rows: 1; Orientation: Horizontal; Pitch: 3.81mm
footprint 691310340003
pins: 1, 2, 3

## 691310340004
designator J?  (value not drawn)
WR-TBL Series 3103 Horizontal PCB Header with Flanges, THT, pitch 3.81mm, 4p; Manufacturer: Wurth Elektronik; Modularity: No; Rated Current: 8A; Working Voltage: 300V; ComponentLink1Description: Website Link; ComponentLink1URL: https://www.we-online.com/redexpert/article/691310340004?ad; ComponentLink2Description: Datasheet Link; ComponentLink2URL: https://www.we-online.com/redexpert/spec/691310340004?ad; Manufacturer Part Number: 691310340004; Category: Terminal Blocks; Match Code: WR-TBL; Mount: Through Hole; Operating Temperature Max: 115°C; Operating Temperature Min: -40°C; Packaging: Box; Application: Pluggable; Number of Pins: 4; Number of Rows: 1; Orientation: Horizontal; Pitch: 3.81mm
footprint 691310340004
pins: 1, 2, 3, 4

## 691310340005
designator J?  (value not drawn)
WR-TBL Series 3103 Horizontal PCB Header with Flanges, THT, pitch 3.81mm, 5p; Manufacturer: Wurth Elektronik; Modularity: No; Rated Current: 8A; Working Voltage: 300V; ComponentLink1Description: Website Link; ComponentLink1URL: https://www.we-online.com/redexpert/article/691310340005?ad; ComponentLink2Description: Datasheet Link; ComponentLink2URL: https://www.we-online.com/redexpert/spec/691310340005?ad; Manufacturer Part Number: 691310340005; Category: Terminal Blocks; Match Code: WR-TBL; Mount: Through Hole; Operating Temperature Max: 115°C; Operating Temperature Min: -40°C; Packaging: Box; Application: Pluggable; Number of Pins: 5; Number of Rows: 1; Orientation: Horizontal; Pitch: 3.81mm
footprint 691310340005
pins: 1, 2, 3, 4, 5

## 691310340006
designator J?  (value not drawn)
WR-TBL Series 3103 Horizontal PCB Header with Flanges, THT, pitch 3.81mm, 6p; Manufacturer: Wurth Elektronik; Modularity: No; Rated Current: 8A; Working Voltage: 300V; ComponentLink1Description: Website Link; ComponentLink1URL: https://www.we-online.com/redexpert/article/691310340006?ad; ComponentLink2Description: Datasheet Link; ComponentLink2URL: https://www.we-online.com/redexpert/spec/691310340006?ad; Manufacturer Part Number: 691310340006; Category: Terminal Blocks; Match Code: WR-TBL; Mount: Through Hole; Operating Temperature Max: 115°C; Operating Temperature Min: -40°C; Packaging: Box; Application: Pluggable; Number of Pins: 6; Number of Rows: 1; Orientation: Horizontal; Pitch: 3.81mm
footprint 691310340006
pins: 1, 2, 3, 4, 5, 6

## 691310340007
designator J?  (value not drawn)
WR-TBL Series 3103 Horizontal PCB Header with Flanges, THT, pitch 3.81mm, 7p; Manufacturer: Wurth Elektronik; Modularity: No; Rated Current: 8A; Working Voltage: 300V; ComponentLink1Description: Website Link; ComponentLink1URL: https://www.we-online.com/redexpert/article/691310340007?ad; ComponentLink2Description: Datasheet Link; ComponentLink2URL: https://www.we-online.com/redexpert/spec/691310340007?ad; Manufacturer Part Number: 691310340007; Category: Terminal Blocks; Match Code: WR-TBL; Mount: Through Hole; Operating Temperature Max: 115°C; Operating Temperature Min: -40°C; Packaging: Box; Application: Pluggable; Number of Pins: 7; Number of Rows: 1; Orientation: Horizontal; Pitch: 3.81mm
footprint 691310340007
pins: 1, 2, 3, 4, 5, 6, 7

## 691310340008
designator J?  (value not drawn)
WR-TBL Series 3103 Horizontal PCB Header with Flanges, THT, pitch 3.81mm, 8p; Manufacturer: Wurth Elektronik; Modularity: No; Rated Current: 8A; Working Voltage: 300V; ComponentLink1Description: Website Link; ComponentLink1URL: https://www.we-online.com/redexpert/article/691310340008?ad; ComponentLink2Description: Datasheet Link; ComponentLink2URL: https://www.we-online.com/redexpert/spec/691310340008?ad; Manufacturer Part Number: 691310340008; Category: Terminal Blocks; Match Code: WR-TBL; Mount: Through Hole; Operating Temperature Max: 115°C; Operating Temperature Min: -40°C; Packaging: Box; Application: Pluggable; Number of Pins: 8; Number of Rows: 1; Orientation: Horizontal; Pitch: 3.81mm
footprint 691310340008
pins: 1, 2, 3, 4, 5, 6, 7, 8

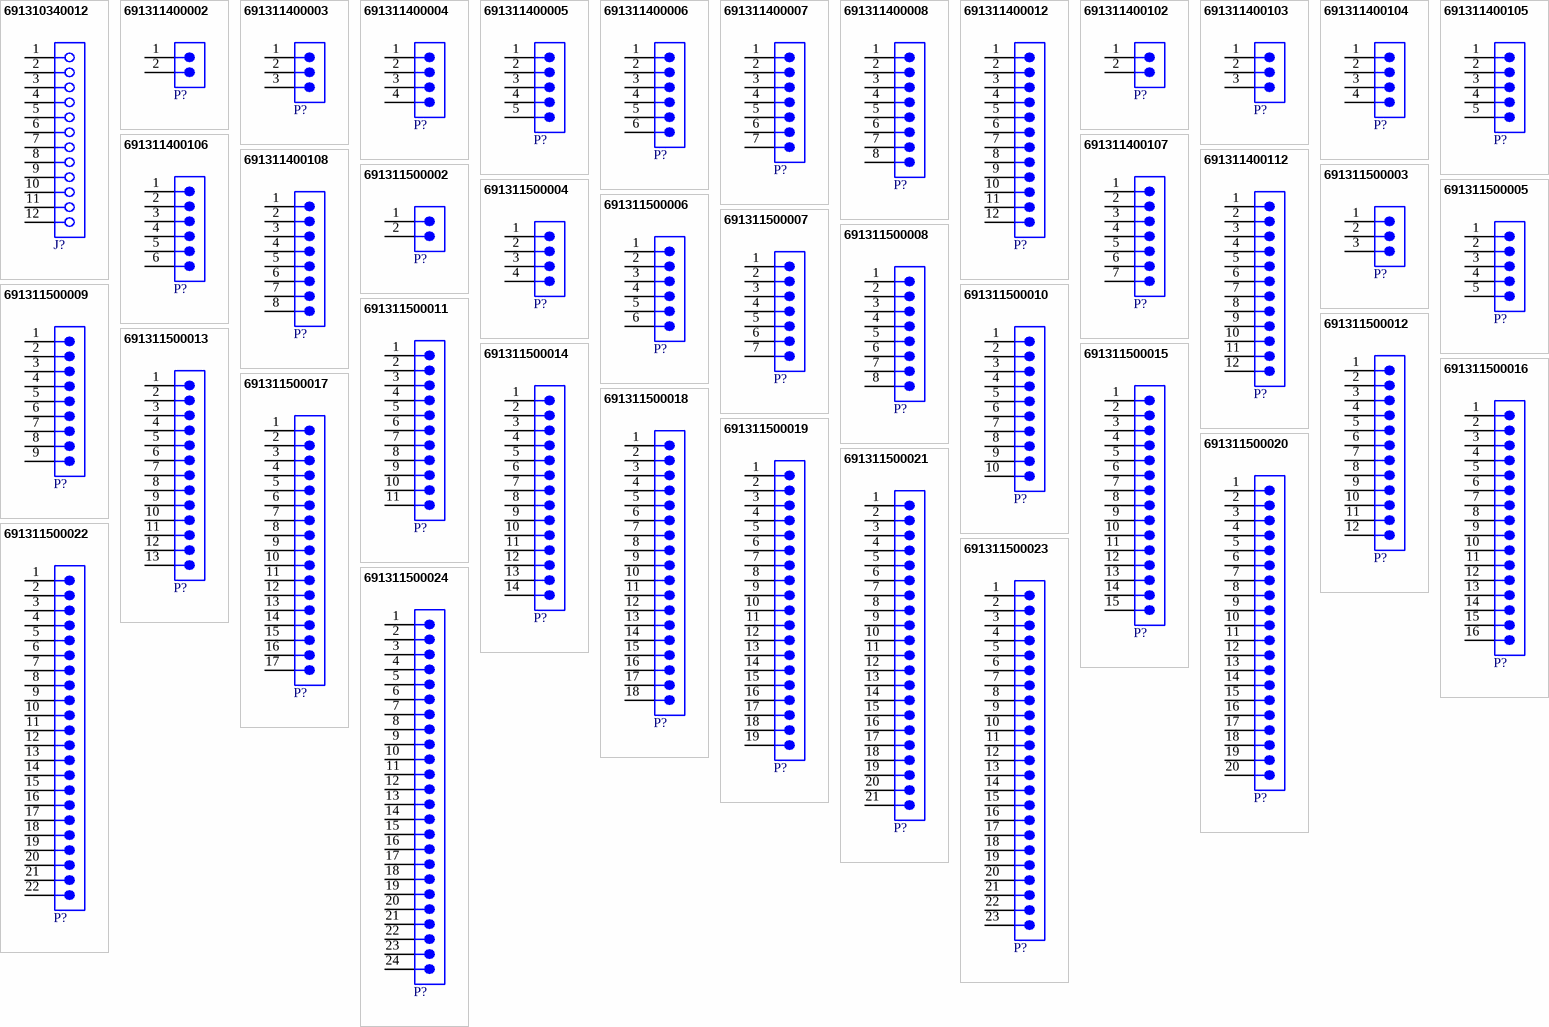
[diagram p17: symbols 691310340012 to 691311500024]

## 691310340012
designator J?  (value not drawn)
WR-TBL Series 3103 Horizontal PCB Header with Flanges, THT, pitch 3.81mm, 12p; Manufacturer: Wurth Elektronik; Modularity: No; Rated Current: 8A; Working Voltage: 300V; ComponentLink1Description: Website Link; ComponentLink1URL: https://www.we-online.com/redexpert/article/691310340012?ad; ComponentLink2Description: Datasheet Link; ComponentLink2URL: https://www.we-online.com/redexpert/spec/691310340012?ad; Manufacturer Part Number: 691310340012; Category: Terminal Blocks; Match Code: WR-TBL; Mount: Through Hole; Operating Temperature Max: 115°C; Operating Temperature Min: -40°C; Packaging: Box; Application: Pluggable; Number of Pins: 12; Number of Rows: 1; Orientation: Horizontal; Pitch: 3.81mm
footprint 691310340012
pins: 1, 2, 3, 4, 5, 6, 7, 8, 9, 10, 11, 12

## 691311400002
designator P?  (value not drawn)
WR-TBL Series 3114 Open Vertical PCB Header, THT, pitch 7.62mm, 2p; Manufacturer: Wurth Elektronik; Modularity: No; Rated Current: 20A; Working Voltage: 300V; ComponentLink1Description: Website Link; ComponentLink1URL: https://www.we-online.com/redexpert/article/691311400002?ad; ComponentLink2Description: Datasheet Link; ComponentLink2URL: https://www.we-online.com/redexpert/spec/691311400002?ad; Manufacturer Part Number: 691311400002; Category: Terminal Blocks; Match Code: WR-TBL; Mount: Through Hole; Operating Temperature Max: 105°C; Operating Temperature Min: -40°C; Packaging: Box; Application: Pluggable; Number of Pins: 2; Number of Rows: 1; Orientation: Vertical; Pitch: 7.62mm
footprint 691311400002
pins: 1, 2

## 691311400003
designator P?  (value not drawn)
WR-TBL Series 3114 Open Vertical PCB Header, THT, pitch 7.62mm, 3p; Manufacturer: Wurth Elektronik; Modularity: No; Rated Current: 20A; Working Voltage: 300V; ComponentLink1Description: Website Link; ComponentLink1URL: https://www.we-online.com/redexpert/article/691311400003?ad; ComponentLink2Description: Datasheet Link; ComponentLink2URL: https://www.we-online.com/redexpert/spec/691311400003?ad; Manufacturer Part Number: 691311400003; Category: Terminal Blocks; Match Code: WR-TBL; Mount: Through Hole; Operating Temperature Max: 105°C; Operating Temperature Min: -40°C; Packaging: Box; Application: Pluggable; Number of Pins: 3; Number of Rows: 1; Orientation: Vertical; Pitch: 7.62mm
footprint 691311400003
pins: 1, 2, 3

## 691311400004
designator P?  (value not drawn)
WR-TBL Series 3114 Open Vertical PCB Header, THT, pitch 7.62mm, 4p; Manufacturer: Wurth Elektronik; Modularity: No; Rated Current: 20A; Working Voltage: 300V; ComponentLink1Description: Website Link; ComponentLink1URL: https://www.we-online.com/redexpert/article/691311400004?ad; ComponentLink2Description: Datasheet Link; ComponentLink2URL: https://www.we-online.com/redexpert/spec/691311400004?ad; Manufacturer Part Number: 691311400004; Category: Terminal Blocks; Match Code: WR-TBL; Mount: Through Hole; Operating Temperature Max: 105°C; Operating Temperature Min: -40°C; Packaging: Box; Application: Pluggable; Number of Pins: 4; Number of Rows: 1; Orientation: Vertical; Pitch: 7.62mm
footprint 691311400004
pins: 1, 2, 3, 4

## 691311400005
designator P?  (value not drawn)
WR-TBL Series 3114 Open Vertical PCB Header, THT, pitch 7.62mm, 5p; Manufacturer: Wurth Elektronik; Modularity: No; Rated Current: 20A; Working Voltage: 300V; ComponentLink1Description: Website Link; ComponentLink1URL: https://www.we-online.com/redexpert/article/691311400005?ad; ComponentLink2Description: Datasheet Link; ComponentLink2URL: https://www.we-online.com/redexpert/spec/691311400005?ad; Manufacturer Part Number: 691311400005; Category: Terminal Blocks; Match Code: WR-TBL; Mount: Through Hole; Operating Temperature Max: 105°C; Operating Temperature Min: -40°C; Packaging: Box; Application: Pluggable; Number of Pins: 5; Number of Rows: 1; Orientation: Vertical; Pitch: 7.62mm
footprint 691311400005
pins: 1, 2, 3, 4, 5

## 691311400006
designator P?  (value not drawn)
WR-TBL Series 3114 Open Vertical PCB Header, THT, pitch 7.62mm, 6p; Manufacturer: Wurth Elektronik; Modularity: No; Rated Current: 20A; Working Voltage: 300V; ComponentLink1Description: Website Link; ComponentLink1URL: https://www.we-online.com/redexpert/article/691311400006?ad; ComponentLink2Description: Datasheet Link; ComponentLink2URL: https://www.we-online.com/redexpert/spec/691311400006?ad; Manufacturer Part Number: 691311400006; Category: Terminal Blocks; Match Code: WR-TBL; Mount: Through Hole; Operating Temperature Max: 105°C; Operating Temperature Min: -40°C; Packaging: Box; Application: Pluggable; Number of Pins: 6; Number of Rows: 1; Orientation: Vertical; Pitch: 7.62mm
footprint 691311400006
pins: 1, 2, 3, 4, 5, 6

## 691311400007
designator P?  (value not drawn)
WR-TBL Series 3114 Open Vertical PCB Header, THT, pitch 7.62mm, 7p; Manufacturer: Wurth Elektronik; Modularity: No; Rated Current: 20A; Working Voltage: 300V; ComponentLink1Description: Website Link; ComponentLink1URL: https://www.we-online.com/redexpert/article/691311400007?ad; ComponentLink2Description: Datasheet Link; ComponentLink2URL: https://www.we-online.com/redexpert/spec/691311400007?ad; Manufacturer Part Number: 691311400007; Category: Terminal Blocks; Match Code: WR-TBL; Mount: Through Hole; Operating Temperature Max: 105°C; Operating Temperature Min: -40°C; Packaging: Box; Application: Pluggable; Number of Pins: 7; Number of Rows: 1; Orientation: Vertical; Pitch: 7.62mm
footprint 691311400007
pins: 1, 2, 3, 4, 5, 6, 7

## 691311400008
designator P?  (value not drawn)
WR-TBL Series 3114 Open Vertical PCB Header, THT, pitch 7.62mm, 8p; Manufacturer: Wurth Elektronik; Modularity: No; Rated Current: 20A; Working Voltage: 300V; ComponentLink1Description: Website Link; ComponentLink1URL: https://www.we-online.com/redexpert/article/691311400008?ad; ComponentLink2Description: Datasheet Link; ComponentLink2URL: https://www.we-online.com/redexpert/spec/691311400008?ad; Manufacturer Part Number: 691311400008; Category: Terminal Blocks; Match Code: WR-TBL; Mount: Through Hole; Operating Temperature Max: 105°C; Operating Temperature Min: -40°C; Packaging: Box; Application: Pluggable; Number of Pins: 8; Number of Rows: 1; Orientation: Vertical; Pitch: 7.62mm
footprint 691311400008
pins: 1, 2, 3, 4, 5, 6, 7, 8

## 691311400012
designator P?  (value not drawn)
WR-TBL Series 3114 Open Vertical PCB Header, THT, pitch 7.62mm, 12p; Manufacturer: Wurth Elektronik; Modularity: No; Rated Current: 20A; Working Voltage: 300V; ComponentLink1Description: Website Link; ComponentLink1URL: https://www.we-online.com/redexpert/article/691311400012?ad; ComponentLink2Description: Datasheet Link; ComponentLink2URL: https://www.we-online.com/redexpert/spec/691311400012?ad; Manufacturer Part Number: 691311400012; Category: Terminal Blocks; Match Code: WR-TBL; Mount: Through Hole; Operating Temperature Max: 105°C; Operating Temperature Min: -40°C; Packaging: Box; Application: Pluggable; Number of Pins: 12; Number of Rows: 1; Orientation: Vertical; Pitch: 7.62mm
footprint 691311400012
pins: 1, 2, 3, 4, 5, 6, 7, 8, 9, 10, 11, 12